# EAGLE library part VSSR1603103 (library nest_interface)
RES ARRAY 10K OHM 8 RES 16-LSSOP
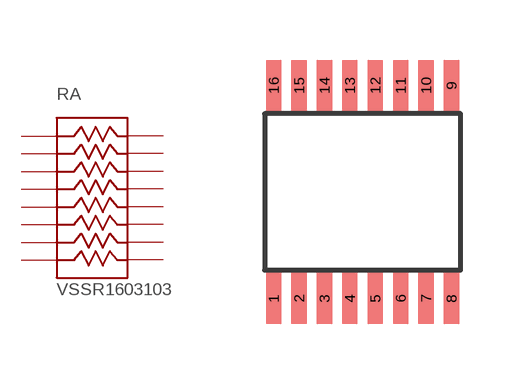
[diagram p7: symbol with the pads of LSSOP-16; footprint LSSOP-16]

Designator prefix RA

## VSSR1603103 (DIGIKEY: VSSR16-10K-JI-ND)  [LSSOP-16]
1  1
2  2
3  3
4  4
5  5
6  6
7  7
8  8
9  9
10  10
11  11
12  12
13  13
14  14
15  15
16  16

## Footprint LSSOP-16 (pad centres in mm)
smd 0.381 x 1.27: 1 -2.223,-2.667; 2 -1.587,-2.667; 3 -0.953,-2.667; 4 -0.318,-2.667; 5 0.318,-2.667; 6 0.953,-2.667; 7 1.587,-2.667; 8 2.223,-2.667; 9 2.223,2.667; 10 1.587,2.667; 11 0.953,2.667; 12 0.318,2.667; 13 -0.318,2.667; 14 -0.953,2.667; 15 -1.587,2.667; 16 -2.223,2.667